# EAGLE library part CONB2B (library ConV4)
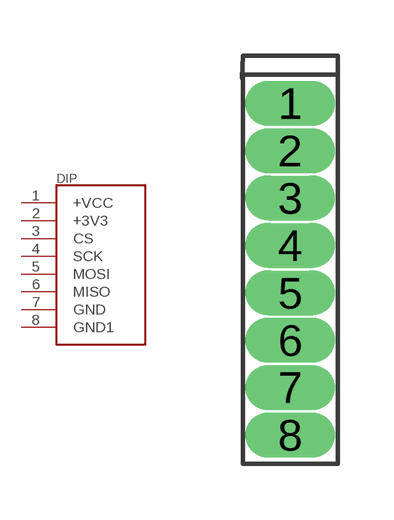
[diagram p4: symbol with the pads of CON7_127; footprint CON7_127]

Designator prefix DIP

## CONB2BDIP  [CON7_127]
1  +VCC
2  +3V3
3  CS
4  SCK
5  MOSI
6  MISO
7  GND
8  GND1

## Footprint CON7_127 (pad centres in mm)
drill 0.7 pad 1.016 long: 1 0,0; 2 0,-1.27; 3 0,-2.54; 4 0,-3.81; 5 0,-5.08; 6 0,-6.35; 7 0,-7.62; 8 0,-8.89